# EAGLE library part QUECTEL-L80 (library geusebio)
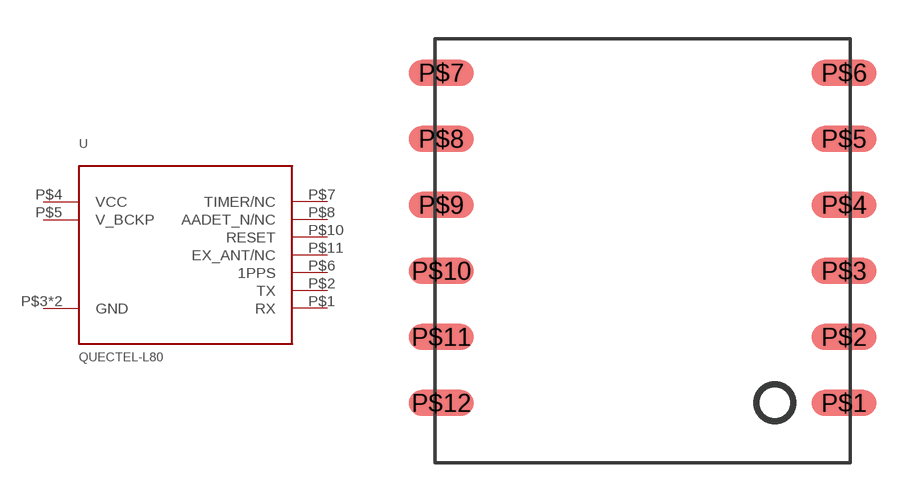
[diagram p19: symbol with the pads of QUECTEL-L80; footprint QUECTEL-L80]

Designator prefix -

## QUECTEL-L80  [QUECTEL-L80]
P$1  RX
P$2  TX
P$3  GND
P$4  VCC
P$5  V_BCKP
P$6  1PPS
P$7  TIMER/NC
P$8  AADET_N/NC
P$10  RESET
P$11  EX_ANT/NC
P$12  GND

## Footprint QUECTEL-L80 (pad centres in mm)
smd 2.5 x 1: P$1 7.75,-6.35; P$2 7.75,-3.81; P$3 7.75,-1.27; P$4 7.75,1.27; P$5 7.75,3.81; P$6 7.75,6.35; P$7 -7.75,6.35; P$8 -7.75,3.81; P$9 -7.75,1.27; P$10 -7.75,-1.27; P$11 -7.75,-3.81; P$12 -7.75,-6.35